# Altium integrated library BU2032-1-HD-G.IntLib: 1 symbol
Pins are listed as number, name and electrical type; pins without a type are passive.

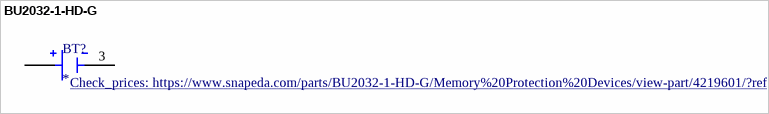
[diagram p0: symbol BU2032-1-HD-G]

## BU2032-1-HD-G
designator BT?
BATTERY HOLDER COIN 20MM PC PIN; MP: BU2032-1-HD-G; MF: MPD; Value: *; SnapEDA_Link: https://www.snapeda.com/parts/BU2032-1-HD-G/Memory%20Protection%20Devices/view-part/4219601/?ref=snap; Package: None; Check_prices: https://www.snapeda.com/parts/BU2032-1-HD-G/Memory%20Protection%20Devices/view-part/4219601/?ref=eda
footprint BAT_BU2032-1-HD-G
pins: 1 POS, 2 POS, 3 NEG